# Altium schematic symbol library PREF35125QDBVR.SchLib: 1 symbol
Pins are listed as number, name and electrical type; pins without a type are passive.

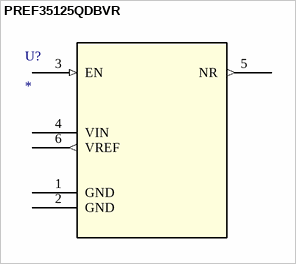
[diagram p0: symbol PREF35125QDBVR]

## PREF35125QDBVR
designator U?
650-nA quiescent current, 12-ppm/°C drift, ultra-low-power precision voltage reference; Mfr_Name: Texas Instruments; RefDes: RefDes; Type: Type; Supplier 1: Digikey; Supplier Part Number 1: 296-REF35300QDBVRCT-ND
footprint SOT23_DBV_TEX
pins: 1 GND (power), 2 GND (power), 3 EN (in), 4 VIN (power), 5 NR (out), 6 VREF (out)